# Altium schematic symbol library sensors.SchLib: 17 symbols
Pins are listed as number, name and electrical type; pins without a type are passive.

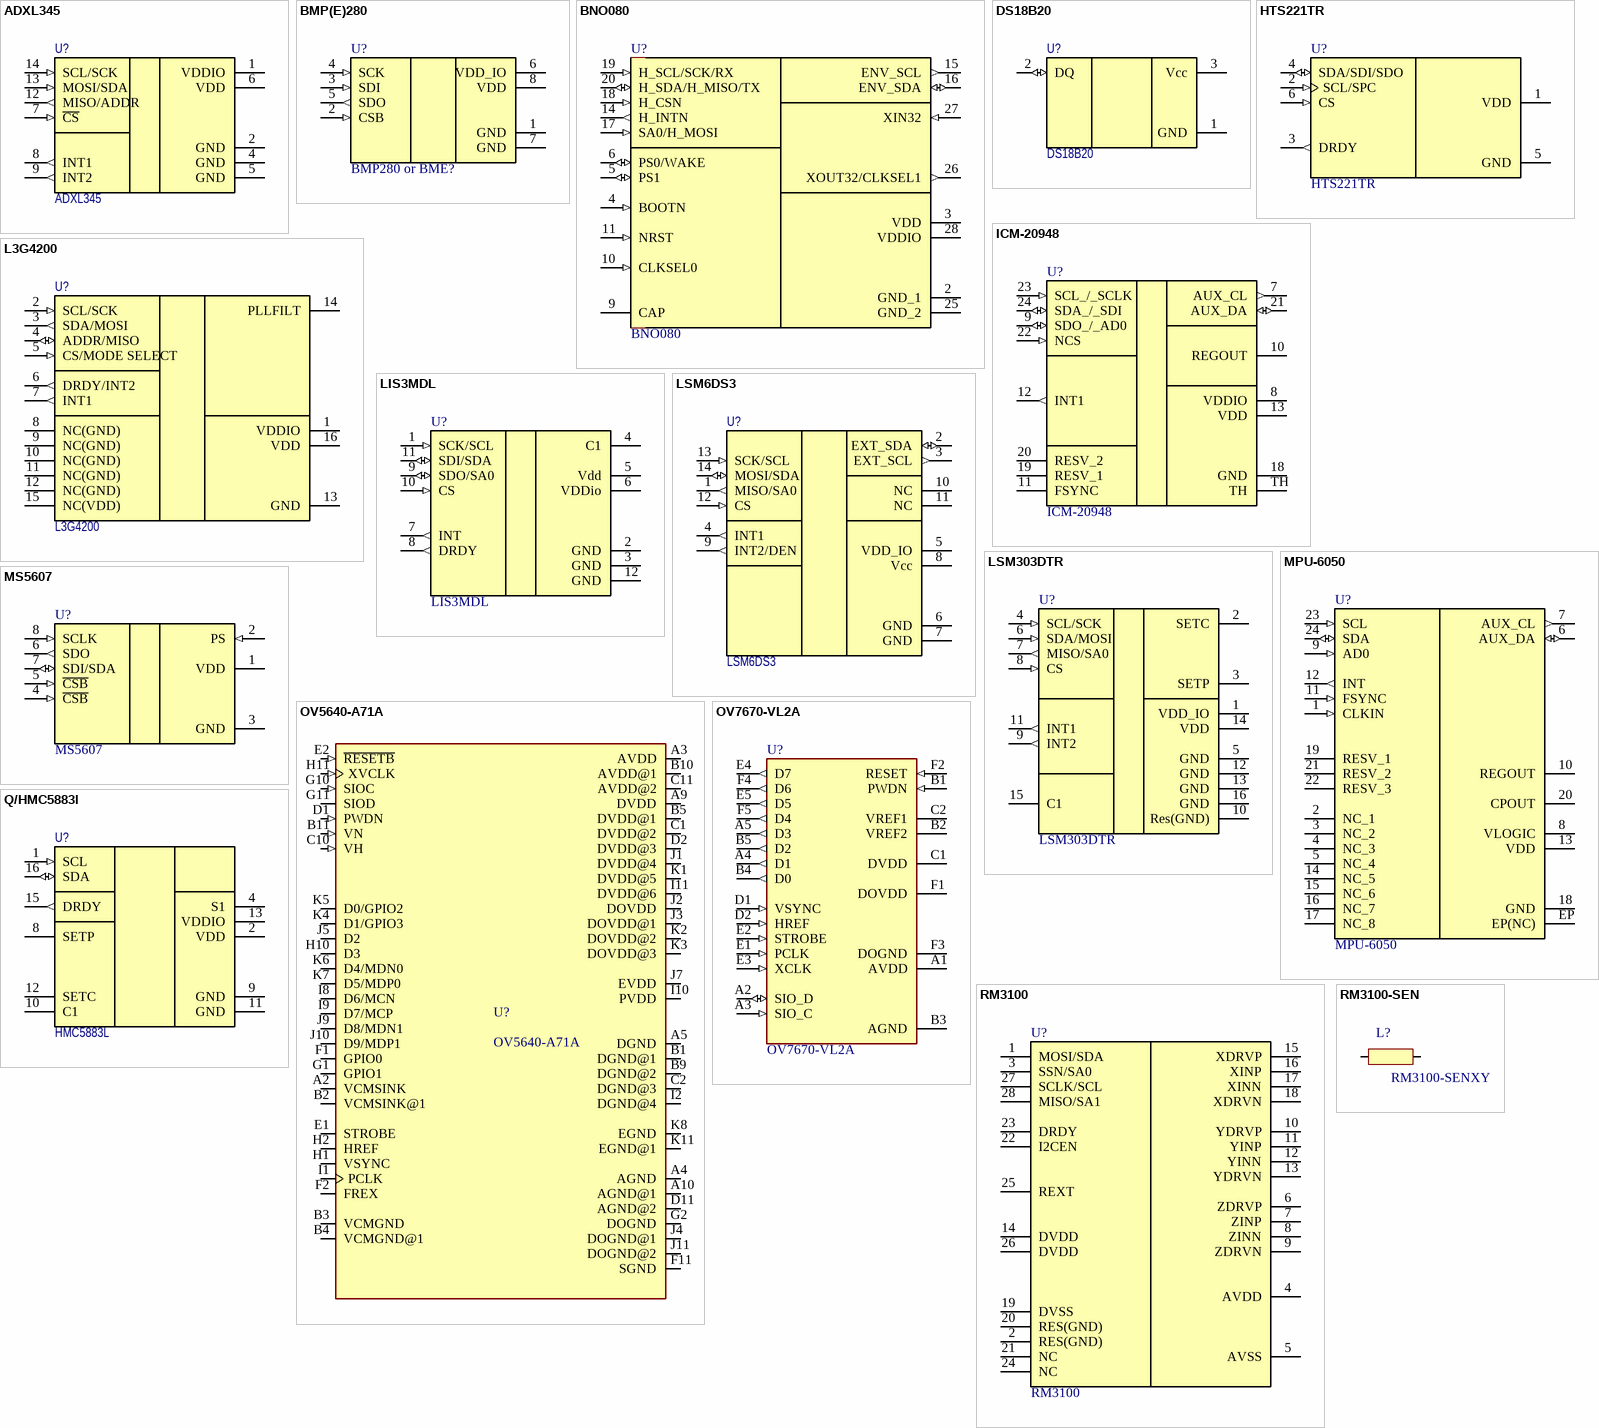
[diagram p0: symbols ADXL345 to RM3100-SEN]

## ADXL345
designator U?
Acc
footprint LGA14_ADXL345
pins: 1 VDDIO (power), 2 GND (power), 4 GND (power), 5 GND (power), 6 VDD (power), 7 ~{CS} (in), 8 INT1 (out), 9 INT2 (out), 12 MISO/ADDR (out), 13 MOSI/SDA (in), 14 SCL/SCK (in)

## BMP(E)280
designator U?, comment BMP280 or BME?
Temp/Pres/Hum
footprint LGA8_BME280
footprint LGA8_BMP280
pins: 1 GND (power), 2 CSB (in), 3 SDI (in), 4 SCK (in), 5 SDO (out), 6 VDD_IO (power), 7 GND (power), 8 VDD (power)

## BNO080
designator U?
Acc+Gyro+Mag
footprint BNO080
pins: 2 GND_1 (power), 3 VDD (power), 4 BOOTN (in), 5 PS1 (io), 6 PS0/WAKE (io), 9 CAP (power), 10 CLKSEL0 (in), 11 NRST (in), 14 H_INTN (out), 15 ENV_SCL (out), 16 ENV_SDA (io), 17 SA0/H_MOSI (in), 18 H_CSN (in), 19 H_SCL/SCK/RX (in), 20 H_SDA/H_MISO/TX (io), 25 GND_2 (power), 26 XOUT32/CLKSEL1 (out), 27 XIN32 (in), 28 VDDIO (power)

## DS18B20
designator U?
Temp; IsSMT: NoSMT
footprint TO-92
footprint TO-92
pins: 1 GND (power), 2 DQ (io), 3 Vcc (power)

## HTS221TR
designator U?
Temp/Hum; IsSMT: NoSMT
footprint LGA6_HTS221
pins: 1 VDD (power), 2 SCL/SPC (in), 3 DRDY (out), 4 SDA/SDI/SDO (io), 5 GND (power), 6 CS (in)

## ICM-20948
designator U?
Acc/Gyro/Mag; Manufacturer_Name: TDK; Datasheet Link: https://datasheet.datasheetarchive.com/originals/dk/DKDS-31/602366.pdf; Height: 1.05mm; Manufacturer_Part_Number: ICM-20948; Mouser Part Number: 410-ICM-20948; Mouser Price/Stock: https://www.mouser.co.uk/ProductDetail/TDK-InvenSense/ICM-20948?qs=u4fy%2FsgLU9OtGc31yF%2Friw%3D%3D; Arrow Part Number: ICM-20948; Arrow Price/Stock: https://www.arrow.com/en/products/icm-20948/invensense
footprint LGA24_ICM20948
pins: 7 AUX_CL (out), 8 VDDIO (power), 9 SDO_/_AD0 (io), 10 REGOUT (power), 11 FSYNC, 12 INT1 (out), 13 VDD (power), 18 GND (power), 19 RESV_1, 20 RESV_2, 21 AUX_DA (io), 22 NCS (in), 23 SCL_/_SCLK (in), 24 SDA_/_SDI (io), TH (power)

## L3G4200
designator U?
Gyro
footprint LGA16_L3G4200
pins: 1 VDDIO (power), 2 SCL/SCK (in), 3 SDA/MOSI (out), 4 ADDR/MISO (io), 5 CS/MODE SELECT (in), 6 DRDY/INT2 (out), 7 INT1 (out), 8 NC(GND), 9 NC(GND), 10 NC(GND), 11 NC(GND), 12 NC(GND), 13 GND (power), 14 PLLFILT (power), 15 NC(VDD), 16 VDD (power)

## LIS3MDL
designator U?
Mag; IsSMT: NoSMT
footprint LGA12_LIS3MDL
pins: 1 SCK/SCL (in), 2 GND (power), 3 GND (power), 4 C1 (power), 5 Vdd (power), 6 VDDio (power), 7 INT (out), 8 DRDY (out), 9 SDO/SA0 (io), 10 CS (in), 11 SDI/SDA (io), 12 GND (power)

## LSM6DS3
designator U?
Acc/Gyro; IsSMT: NoSMT
footprint LGA14_LSM6DS3
pins: 1 MISO/SA0 (out), 2 EXT_SDA (io), 3 EXT_SCL (out), 4 INT1 (out), 5 VDD_IO (power), 6 GND (power), 7 GND (power), 8 Vcc (power), 9 INT2/DEN (out), 10 NC, 11 NC, 12 CS (in), 13 SCK/SCL (in), 14 MOSI/SDA (io)

## LSM303DTR
designator U?
Acc/Mag
footprint LGA16_LSM303DTR
pins: 1 VDD_IO (power), 2 SETC (power), 3 SETP (power), 4 SCL/SCK (in), 5 GND (power), 6 SDA/MOSI (in), 7 MISO/SA0 (out), 8 CS (in), 9 INT2 (out), 10 Res(GND) (power), 11 INT1 (out), 12 GND (power), 13 GND (power), 14 VDD (power), 15 C1 (power), 16 GND (power)

## MPU-6050
designator U?
Acc/Gyro
footprint QFN-24(MPU-6050)
pins: 1 CLKIN (in), 2 NC_1, 3 NC_2, 4 NC_3, 5 NC_4, 6 AUX_DA (io), 7 AUX_CL (out), 8 VLOGIC (power), 9 AD0 (in), 10 REGOUT (power), 11 FSYNC (in), 12 INT (out), 13 VDD (power), 14 NC_5, 15 NC_6, 16 NC_7, 17 NC_8, 18 GND (power), 19 RESV_1, 20 CPOUT (power), 21 RESV_2, 22 RESV_3, 23 SCL (in), 24 SDA (io), EP EP(NC) (power)

## MS5607
designator U?
Temp/Pres; IsSMT: NoSMT
footprint LGA8_MS5607
pins: 1 VDD (power), 2 PS (in), 3 GND (power), 4 ~{CSB} (in), 5 ~{CSB} (in), 6 SDO (out), 7 SDI/SDA (io), 8 SCLK (in)

## OV5640-A71A
designator U?
CMOS Image Sensor
footprint BGA71
pins: A2 VCMSINK (io), A3 AVDD (power), A4 AGND (power), A5 DGND (power), A9 DVDD (power), A10 AGND@1 (power), B1 DGND@1 (power), B2 VCMSINK@1 (io), B3 VCMGND (io), B4 VCMGND@1 (io), B5 DVDD@1 (power), B9 DGND@2 (power), B10 AVDD@1 (power), B11 VN (in), C1 DVDD@2 (power), C2 DGND@3 (power), C10 VH (in), C11 AVDD@2 (power), D1 PWDN (in), D2 DVDD@3 (power), D11 AGND@2 (power), E1 STROBE (io), E2 ~{RESETB} (in), F1 GPIO0 (io), F2 FREX (io), F11 SGND (power), G1 GPIO1 (io), G2 DOGND (power), G10 SIOC (in), G11 SIOD (io), H1 VSYNC (io), H2 HREF (io), H10 D3 (io), H11 XVCLK (in), I1 PCLK (io), I2 DGND@4 (power), I8 D6/MCN (io), I9 D7/MCP (io), I10 PVDD (power), I11 DVDD@6 (power), J1 DVDD@4 (power), J2 DOVDD (power), J3 DOVDD@1 (power), J4 DOGND@1 (power), J5 D2 (io), J7 EVDD (power), J9 D8/MDN1 (io), J10 D9/MDP1 (io), J11 DOGND@2 (power), K1 DVDD@5 (power), K2 DOVDD@2 (power), K3 DOVDD@3 (power), K4 D1/GPIO3 (io), K5 D0/GPIO2 (io), K6 D4/MDN0 (io), K7 D5/MDP0 (io), K8 EGND (power), K11 EGND@1 (power)

## OV7670-VL2A
designator U?
Image
footprint BGA24
pins: A1 AVDD (power), A2 SIO_D (io), A3 SIO_C (in), A4 D1 (out), A5 D3 (out), B1 PWDN (in), B2 VREF2 (power), B3 AGND (power), B4 D0 (out), B5 D2 (out), C1 DVDD (power), C2 VREF1 (power), D1 VSYNC (in), D2 HREF (in), E1 PCLK (in), E2 STROBE (in), E3 XCLK (in), E4 D7 (out), E5 D5 (out), F1 DOVDD (power), F2 RESET (in), F3 DOGND (power), F4 D6 (out), F5 D4 (out)

## Q/HMC5883l
designator U?, comment HMC5883L
Gyro
footprint LGA16_HMC5883L
pins: 1 SCL (in), 2 VDD (power), 4 S1, 8 SETP (power), 9 GND (power), 10 C1 (power), 11 GND (power), 12 SETC (power), 13 VDDIO (power), 15 DRDY (out), 16 SDA (io)

## RM3100
designator U?
Mag
footprint QFN-28_0.4mm (Body 5,00x5,00mm, Pitch 0,50mm)
pins: 1 MOSI/SDA, 2 RES(GND), 3 SSN/SA0, 4 AVDD (power), 5 AVSS (power), 6 ZDRVP, 7 ZINP, 8 ZINN, 9 ZDRVN, 10 YDRVP, 11 YINP, 12 YINN, 13 YDRVN, 14 DVDD (power), 15 XDRVP, 16 XINP, 17 XINN, 18 XDRVN, 19 DVSS, 20 RES(GND), 21 NC, 22 I2CEN, 23 DRDY, 24 NC, 25 REXT, 26 DVDD (power), 27 SCLK/SCL, 28 MISO/SA1

## RM3100-SEN
designator L?, comment RM3100-SENXY
Mag
footprint RM3100_XY
footprint RM3100_Z
pins: 1 L1, 2 L2